# EAGLE library part EP3C16F256 (library altera)
EP3C16U256 edit this description Auto generated by make-symbol-device-package-bsdl.ulp Rev. 44 Source: EP3C16U256.txt Connect-List generated from EP3C16U256.DEV Variant U256 with split-device-symbol.ulp
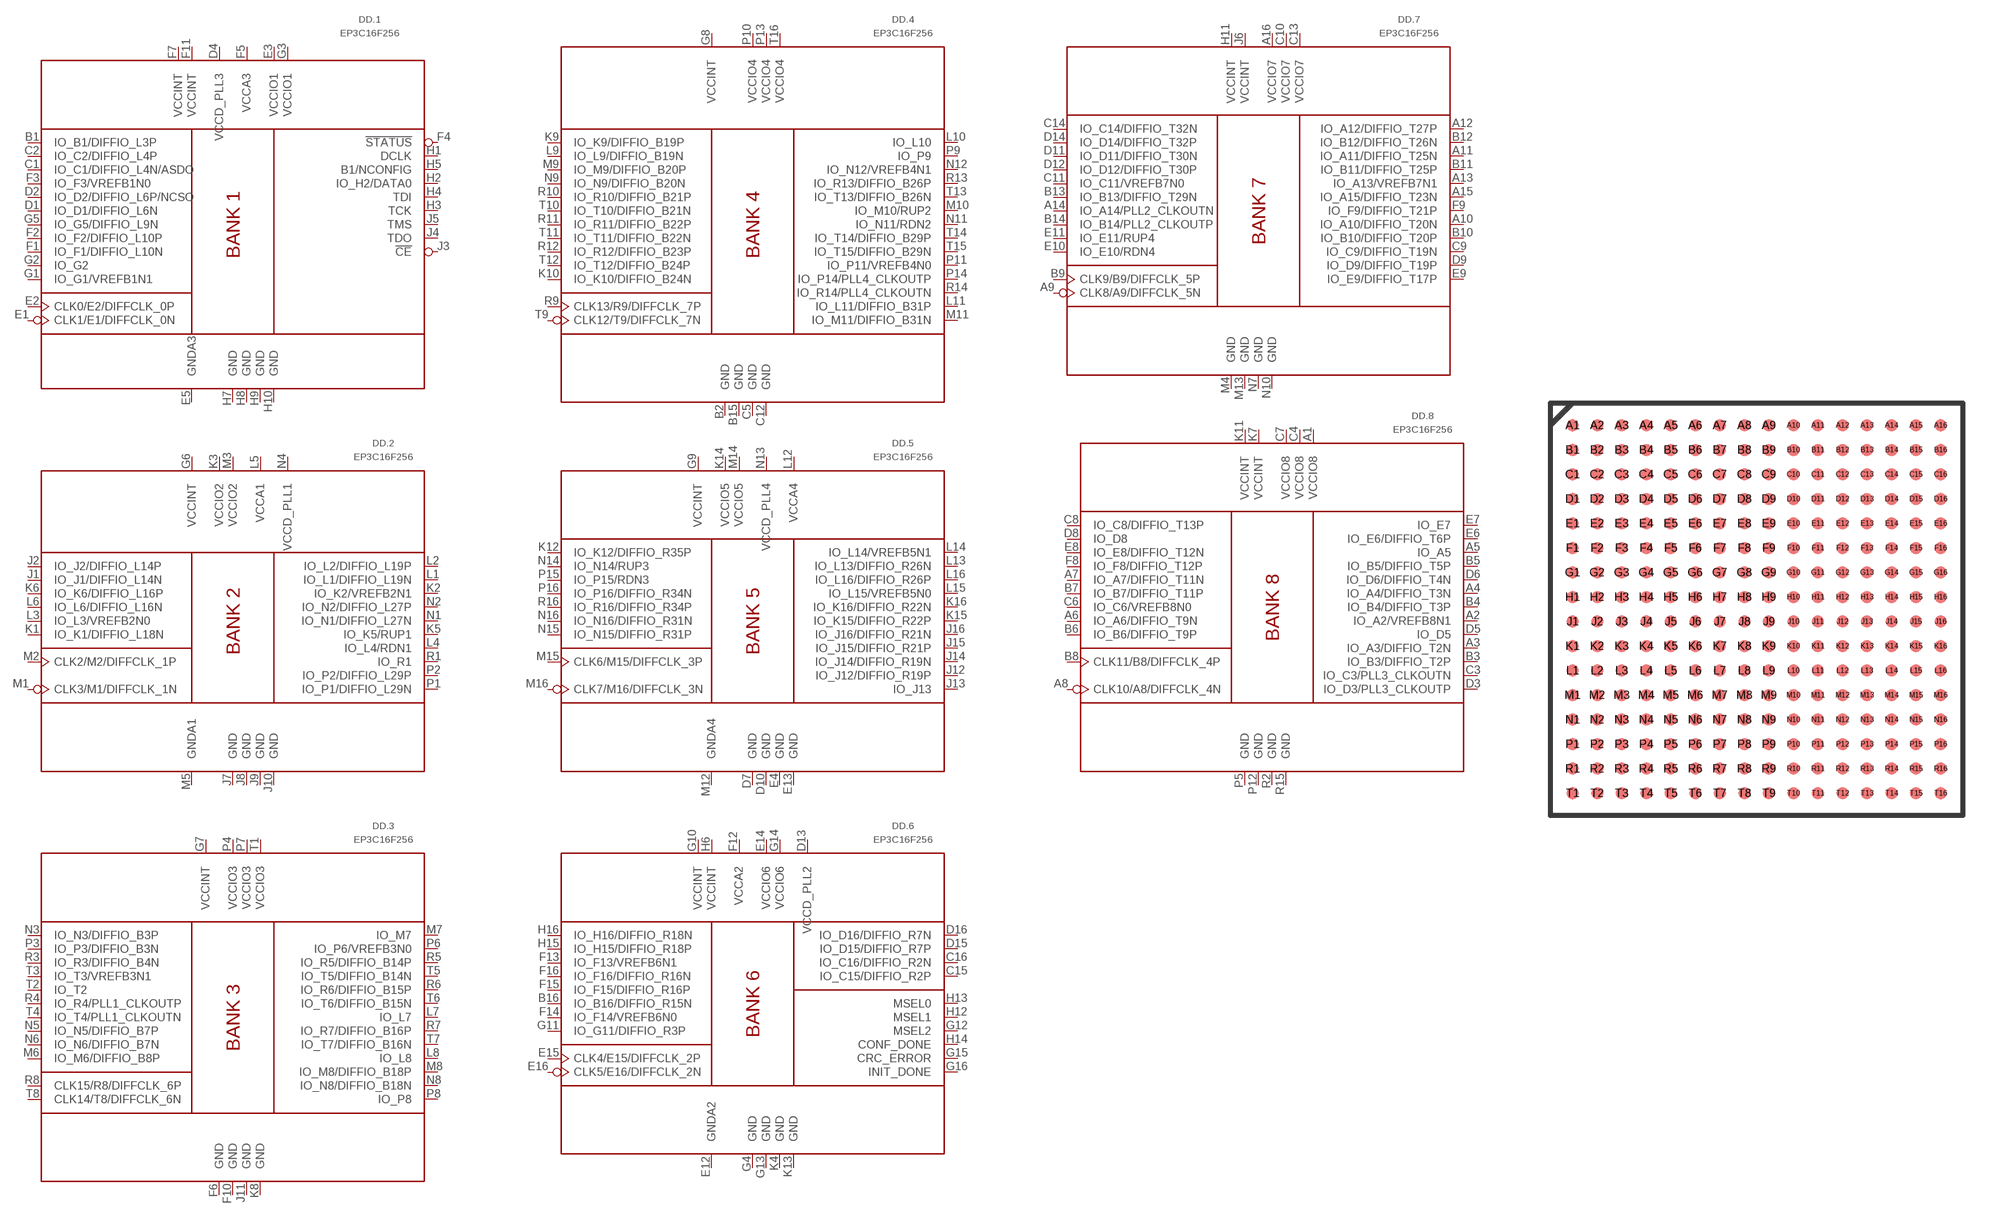
[diagram p5: symbol with the pads of FBGA256; footprint FBGA256]

Designator prefix DD; gates .1=EP3C16F256_BANK1 .2=EP3C16F256_BANK2 .3=EP3C16F256_BANK3 .4=EP3C16F256_BANK4 .5=EP3C16F256_BANK5 .6=EP3C16F256_BANK6 .7=EP3C16F256_BANK7 .8=EP3C16F256_BANK8

## EP3C16F256I7  [FBGA256]
A1  .8:VCCIO8  pwr
A2  .8:IO_A2/VREFB8N1
A3  .8:IO_A3/DIFFIO_T2N
A4  .8:IO_A4/DIFFIO_T3N
A5  .8:IO_A5
A6  .8:IO_A6/DIFFIO_T9N
A7  .8:IO_A7/DIFFIO_T11N
A8  .8:CLK10/A8/DIFFCLK_4N  in
A9  .7:CLK8/A9/DIFFCLK_5N  in
A10  .7:IO_A10/DIFFIO_T20N
A11  .7:IO_A11/DIFFIO_T25N
A12  .7:IO_A12/DIFFIO_T27P
A13  .7:IO_A13/VREFB7N1
A14  .7:IO_A14/PLL2_CLKOUTN
A15  .7:IO_A15/DIFFIO_T23N
A16  .7:VCCIO7  pwr
B1  .1:IO_B1/DIFFIO_L3P
B2  .4:GND  pwr
B3  .8:IO_B3/DIFFIO_T2P
B4  .8:IO_B4/DIFFIO_T3P
B5  .8:IO_B5/DIFFIO_T5P
B6  .8:IO_B6/DIFFIO_T9P
B7  .8:IO_B7/DIFFIO_T11P
B8  .8:CLK11/B8/DIFFCLK_4P  in
B9  .7:CLK9/B9/DIFFCLK_5P  in
B10  .7:IO_B10/DIFFIO_T20P
B11  .7:IO_B11/DIFFIO_T25P
B12  .7:IO_B12/DIFFIO_T26N
B13  .7:IO_B13/DIFFIO_T29N
B14  .7:IO_B14/PLL2_CLKOUTP
B15  .4:GND  pwr
B16  .6:IO_B16/DIFFIO_R15N
C1  .1:IO_C1/DIFFIO_L4N/ASDO
C2  .1:IO_C2/DIFFIO_L4P
C3  .8:IO_C3/PLL3_CLKOUTN
C4  .8:VCCIO8  pwr
C5  .4:GND  pwr
C6  .8:IO_C6/VREFB8N0
C7  .8:VCCIO8  pwr
C8  .8:IO_C8/DIFFIO_T13P
C9  .7:IO_C9/DIFFIO_T19N
C10  .7:VCCIO7  pwr
C11  .7:IO_C11/VREFB7N0
C12  .4:GND  pwr
C13  .7:VCCIO7  pwr
C14  .7:IO_C14/DIFFIO_T32N
C15  .6:IO_C15/DIFFIO_R2P
C16  .6:IO_C16/DIFFIO_R2N
D1  .1:IO_D1/DIFFIO_L6N
D2  .1:IO_D2/DIFFIO_L6P/NCSO
D3  .8:IO_D3/PLL3_CLKOUTP
D4  .1:VCCD_PLL3  pwr
D5  .8:IO_D5
D6  .8:IO_D6/DIFFIO_T4N
D7  .5:GND  pwr
D8  .8:IO_D8
D9  .7:IO_D9/DIFFIO_T19P
D10  .5:GND  pwr
D11  .7:IO_D11/DIFFIO_T30N
D12  .7:IO_D12/DIFFIO_T30P
D13  .6:VCCD_PLL2  pwr
D14  .7:IO_D14/DIFFIO_T32P
D15  .6:IO_D15/DIFFIO_R7P
D16  .6:IO_D16/DIFFIO_R7N
E1  .1:CLK1/E1/DIFFCLK_0N  in
E2  .1:CLK0/E2/DIFFCLK_0P  in
E3  .1:VCCIO1  pwr
E4  .5:GND  pwr
E5  .1:GNDA3  pwr
E6  .8:IO_E6/DIFFIO_T6P
E7  .8:IO_E7
E8  .8:IO_E8/DIFFIO_T12N
E9  .7:IO_E9/DIFFIO_T17P
E10  .7:IO_E10/RDN4
E11  .7:IO_E11/RUP4
E12  .6:GNDA2  pwr
E13  .5:GND  pwr
E14  .6:VCCIO6  pwr
E15  .6:CLK4/E15/DIFFCLK_2P  in
E16  .6:CLK5/E16/DIFFCLK_2N  in
F1  .1:IO_F1/DIFFIO_L10N
F2  .1:IO_F2/DIFFIO_L10P
F3  .1:IO_F3/VREFB1N0
F4  .1:!STATUS  out
F5  .1:VCCA3  pwr
F6  .3:GND  pwr
F7  .1:VCCINT  pwr
F8  .8:IO_F8/DIFFIO_T12P
F9  .7:IO_F9/DIFFIO_T21P
F10  .3:GND  pwr
F11  .1:VCCINT  pwr
F12  .6:VCCA2  pwr
F13  .6:IO_F13/VREFB6N1
F14  .6:IO_F14/VREFB6N0
F15  .6:IO_F15/DIFFIO_R16P
F16  .6:IO_F16/DIFFIO_R16N
G1  .1:IO_G1/VREFB1N1
G2  .1:IO_G2
G3  .1:VCCIO1  pwr
G4  .6:GND  pwr
G5  .1:IO_G5/DIFFIO_L9N
G6  .2:VCCINT  pwr
G7  .3:VCCINT  pwr
G8  .4:VCCINT  pwr
G9  .5:VCCINT  pwr
G10  .6:VCCINT  pwr
G11  .6:IO_G11/DIFFIO_R3P
G12  .6:MSEL2  in
G13  .6:GND  pwr
G14  .6:VCCIO6  pwr
G15  .6:CRC_ERROR
G16  .6:INIT_DONE
H1  .1:DCLK  in
H2  .1:IO_H2/DATA0
H3  .1:TCK  in
H4  .1:TDI  in
H5  .1:B1/NCONFIG  in
H6  .6:VCCINT  pwr
H7  .1:GND  pwr
H8  .1:GND  pwr
H9  .1:GND  pwr
H10  .1:GND  pwr
H11  .7:VCCINT  pwr
H12  .6:MSEL1  in
H13  .6:MSEL0  in
H14  .6:CONF_DONE  out
H15  .6:IO_H15/DIFFIO_R18P
H16  .6:IO_H16/DIFFIO_R18N
J1  .2:IO_J1/DIFFIO_L14N
J2  .2:IO_J2/DIFFIO_L14P
J3  .1:!CE  in
J4  .1:TDO  out
J5  .1:TMS
J6  .7:VCCINT  pwr
J7  .2:GND  pwr
J8  .2:GND  pwr
J9  .2:GND  pwr
J10  .2:GND  pwr
J11  .3:GND  pwr
J12  .5:IO_J12/DIFFIO_R19P
J13  .5:IO_J13
J14  .5:IO_J14/DIFFIO_R19N
J15  .5:IO_J15/DIFFIO_R21P
J16  .5:IO_J16/DIFFIO_R21N
K1  .2:IO_K1/DIFFIO_L18N
K2  .2:IO_K2/VREFB2N1
K3  .2:VCCIO2  pwr
K4  .6:GND  pwr
K5  .2:IO_K5/RUP1
K6  .2:IO_K6/DIFFIO_L16P
K7  .8:VCCINT  pwr
K8  .3:GND  pwr
K9  .4:IO_K9/DIFFIO_B19P
K10  .4:IO_K10/DIFFIO_B24N
K11  .8:VCCINT  pwr
K12  .5:IO_K12/DIFFIO_R35P
K13  .6:GND  pwr
K14  .5:VCCIO5  pwr
K15  .5:IO_K15/DIFFIO_R22P
K16  .5:IO_K16/DIFFIO_R22N
L1  .2:IO_L1/DIFFIO_L19N
L2  .2:IO_L2/DIFFIO_L19P
L3  .2:IO_L3/VREFB2N0
L4  .2:IO_L4/RDN1
L5  .2:VCCA1  pwr
L6  .2:IO_L6/DIFFIO_L16N
L7  .3:IO_L7
L8  .3:IO_L8
L9  .4:IO_L9/DIFFIO_B19N
L10  .4:IO_L10
L11  .4:IO_L11/DIFFIO_B31P
L12  .5:VCCA4  pwr
L13  .5:IO_L13/DIFFIO_R26N
L14  .5:IO_L14/VREFB5N1
L15  .5:IO_L15/VREFB5N0
L16  .5:IO_L16/DIFFIO_R26P
M1  .2:CLK3/M1/DIFFCLK_1N  in
M2  .2:CLK2/M2/DIFFCLK_1P  in
M3  .2:VCCIO2  pwr
M4  .7:GND  pwr
M5  .2:GNDA1  pwr
M6  .3:IO_M6/DIFFIO_B8P
M7  .3:IO_M7
M8  .3:IO_M8/DIFFIO_B18P
M9  .4:IO_M9/DIFFIO_B20P
M10  .4:IO_M10/RUP2
M11  .4:IO_M11/DIFFIO_B31N
M12  .5:GNDA4  pwr
M13  .7:GND  pwr
M14  .5:VCCIO5  pwr
M15  .5:CLK6/M15/DIFFCLK_3P  in
M16  .5:CLK7/M16/DIFFCLK_3N  in
N1  .2:IO_N1/DIFFIO_L27N
N2  .2:IO_N2/DIFFIO_L27P
N3  .3:IO_N3/DIFFIO_B3P
N4  .2:VCCD_PLL1  pwr
N5  .3:IO_N5/DIFFIO_B7P
N6  .3:IO_N6/DIFFIO_B7N
N7  .7:GND  pwr
N8  .3:IO_N8/DIFFIO_B18N
N9  .4:IO_N9/DIFFIO_B20N
N10  .7:GND  pwr
N11  .4:IO_N11/RDN2
N12  .4:IO_N12/VREFB4N1
N13  .5:VCCD_PLL4  pwr
N14  .5:IO_N14/RUP3
N15  .5:IO_N15/DIFFIO_R31P
N16  .5:IO_N16/DIFFIO_R31N
P1  .2:IO_P1/DIFFIO_L29N
P2  .2:IO_P2/DIFFIO_L29P
P3  .3:IO_P3/DIFFIO_B3N
P4  .3:VCCIO3  pwr
P5  .8:GND  pwr
P6  .3:IO_P6/VREFB3N0
P7  .3:VCCIO3  pwr
P8  .3:IO_P8
P9  .4:IO_P9
P10  .4:VCCIO4  pwr
P11  .4:IO_P11/VREFB4N0
P12  .8:GND  pwr
P13  .4:VCCIO4  pwr
P14  .4:IO_P14/PLL4_CLKOUTP
P15  .5:IO_P15/RDN3
P16  .5:IO_P16/DIFFIO_R34N
R1  .2:IO_R1
R2  .8:GND  pwr
R3  .3:IO_R3/DIFFIO_B4N
R4  .3:IO_R4/PLL1_CLKOUTP
R5  .3:IO_R5/DIFFIO_B14P
R6  .3:IO_R6/DIFFIO_B15P
R7  .3:IO_R7/DIFFIO_B16P
R8  .3:CLK15/R8/DIFFCLK_6P  in
R9  .4:CLK13/R9/DIFFCLK_7P  in
R10  .4:IO_R10/DIFFIO_B21P
R11  .4:IO_R11/DIFFIO_B22P
R12  .4:IO_R12/DIFFIO_B23P
R13  .4:IO_R13/DIFFIO_B26P
R14  .4:IO_R14/PLL4_CLKOUTN
R15  .8:GND  pwr
R16  .5:IO_R16/DIFFIO_R34P
T1  .3:VCCIO3  pwr
T2  .3:IO_T2
T3  .3:IO_T3/VREFB3N1
T4  .3:IO_T4/PLL1_CLKOUTN
T5  .3:IO_T5/DIFFIO_B14N
T6  .3:IO_T6/DIFFIO_B15N
T7  .3:IO_T7/DIFFIO_B16N
T8  .3:CLK14/T8/DIFFCLK_6N  in
T9  .4:CLK12/T9/DIFFCLK_7N  in
T10  .4:IO_T10/DIFFIO_B21N
T11  .4:IO_T11/DIFFIO_B22N
T12  .4:IO_T12/DIFFIO_B24P
T13  .4:IO_T13/DIFFIO_B26N
T14  .4:IO_T14/DIFFIO_B29P
T15  .4:IO_T15/DIFFIO_B29N
T16  .4:VCCIO4  pwr

## Footprint FBGA256 (pad centres in mm)
EP3C25F256.BSD edit this description Auto generated by make-symbol-device-package-bsdl.ulp Rev. 44 Source: EP3C25F256.BSD.txt
smd 0.5 x 0.5: A1 -7.5,7.5; A2 -6.5,7.5; A3 -5.5,7.5; A4 -4.5,7.5; A5 -3.5,7.5; A6 -2.5,7.5; A7 -1.5,7.5; A8 -0.5,7.5; A9 0.5,7.5; A10 1.5,7.5; A11 2.5,7.5; A12 3.5,7.5; A13 4.5,7.5; A14 5.5,7.5; A15 6.5,7.5; A16 7.5,7.5; B1 -7.5,6.5; B2 -6.5,6.5; B3 -5.5,6.5; B4 -4.5,6.5; B5 -3.5,6.5; B6 -2.5,6.5; B7 -1.5,6.5; B8 -0.5,6.5; B9 0.5,6.5; B10 1.5,6.5; B11 2.5,6.5; B12 3.5,6.5; B13 4.5,6.5; B14 5.5,6.5; B15 6.5,6.5; B16 7.5,6.5; C1 -7.5,5.5; C2 -6.5,5.5; C3 -5.5,5.5; C4 -4.5,5.5; C5 -3.5,5.5; C6 -2.5,5.5; C7 -1.5,5.5; C8 -0.5,5.5; C9 0.5,5.5; C10 1.5,5.5; C11 2.5,5.5; C12 3.5,5.5; C13 4.5,5.5; C14 5.5,5.5; C15 6.5,5.5; C16 7.5,5.5; D1 -7.5,4.5; D2 -6.5,4.5; D3 -5.5,4.5; D4 -4.5,4.5; D5 -3.5,4.5; D6 -2.5,4.5; D7 -1.5,4.5; D8 -0.5,4.5; D9 0.5,4.5; D10 1.5,4.5; D11 2.5,4.5; D12 3.5,4.5; D13 4.5,4.5; D14 5.5,4.5; D15 6.5,4.5; D16 7.5,4.5; E1 -7.5,3.5; E2 -6.5,3.5; E3 -5.5,3.5; E4 -4.5,3.5; E5 -3.5,3.5; E6 -2.5,3.5; E7 -1.5,3.5; E8 -0.5,3.5; E9 0.5,3.5; E10 1.5,3.5; E11 2.5,3.5; E12 3.5,3.5; E13 4.5,3.5; E14 5.5,3.5; E15 6.5,3.5; E16 7.5,3.5; F1 -7.5,2.5; F2 -6.5,2.5; F3 -5.5,2.5; F4 -4.5,2.5; F5 -3.5,2.5; F6 -2.5,2.5; F7 -1.5,2.5; F8 -0.5,2.5; F9 0.5,2.5; F10 1.5,2.5; F11 2.5,2.5; F12 3.5,2.5; F13 4.5,2.5; F14 5.5,2.5; F15 6.5,2.5; F16 7.5,2.5; G1 -7.5,1.5; G2 -6.5,1.5; G3 -5.5,1.5; G4 -4.5,1.5; G5 -3.5,1.5; G6 -2.5,1.5; G7 -1.5,1.5; G8 -0.5,1.5; G9 0.5,1.5; G10 1.5,1.5; G11 2.5,1.5; G12 3.5,1.5; G13 4.5,1.5; G14 5.5,1.5; G15 6.5,1.5; G16 7.5,1.5; H1 -7.5,0.5; H2 -6.5,0.5; H3 -5.5,0.5; H4 -4.5,0.5; H5 -3.5,0.5; H6 -2.5,0.5; H7 -1.5,0.5; H8 -0.5,0.5; H9 0.5,0.5; H10 1.5,0.5; H11 2.5,0.5; H12 3.5,0.5; H13 4.5,0.5; H14 5.5,0.5; H15 6.5,0.5; H16 7.5,0.5; J1 -7.5,-0.5; J2 -6.5,-0.5; J3 -5.5,-0.5; J4 -4.5,-0.5; J5 -3.5,-0.5; J6 -2.5,-0.5; J7 -1.5,-0.5; J8 -0.5,-0.5; J9 0.5,-0.5; J10 1.5,-0.5; J11 2.5,-0.5; J12 3.5,-0.5; J13 4.5,-0.5; J14 5.5,-0.5; J15 6.5,-0.5; J16 7.5,-0.5; K1 -7.5,-1.5; K2 -6.5,-1.5; K3 -5.5,-1.5; K4 -4.5,-1.5; K5 -3.5,-1.5; K6 -2.5,-1.5; K7 -1.5,-1.5; K8 -0.5,-1.5; K9 0.5,-1.5; K10 1.5,-1.5; K11 2.5,-1.5; K12 3.5,-1.5; K13 4.5,-1.5; K14 5.5,-1.5; K15 6.5,-1.5; K16 7.5,-1.5; L1 -7.5,-2.5; L2 -6.5,-2.5; L3 -5.5,-2.5; L4 -4.5,-2.5; L5 -3.5,-2.5; L6 -2.5,-2.5; L7 -1.5,-2.5; L8 -0.5,-2.5; L9 0.5,-2.5; L10 1.5,-2.5; L11 2.5,-2.5; L12 3.5,-2.5; L13 4.5,-2.5; L14 5.5,-2.5; L15 6.5,-2.5; L16 7.5,-2.5; M1 -7.5,-3.5; M2 -6.5,-3.5; M3 -5.5,-3.5; M4 -4.5,-3.5; M5 -3.5,-3.5; M6 -2.5,-3.5; M7 -1.5,-3.5; M8 -0.5,-3.5; M9 0.5,-3.5; M10 1.5,-3.5; M11 2.5,-3.5; M12 3.5,-3.5; M13 4.5,-3.5; M14 5.5,-3.5; M15 6.5,-3.5; M16 7.5,-3.5; N1 -7.5,-4.5; N2 -6.5,-4.5; N3 -5.5,-4.5; N4 -4.5,-4.5; N5 -3.5,-4.5; N6 -2.5,-4.5; N7 -1.5,-4.5; N8 -0.5,-4.5; N9 0.5,-4.5; N10 1.5,-4.5; N11 2.5,-4.5; N12 3.5,-4.5; N13 4.5,-4.5; N14 5.5,-4.5; N15 6.5,-4.5; N16 7.5,-4.5; P1 -7.5,-5.5; P2 -6.5,-5.5; P3 -5.5,-5.5; P4 -4.5,-5.5; P5 -3.5,-5.5; P6 -2.5,-5.5; P7 -1.5,-5.5; P8 -0.5,-5.5; P9 0.5,-5.5; P10 1.5,-5.5; P11 2.5,-5.5; P12 3.5,-5.5; P13 4.5,-5.5; P14 5.5,-5.5; P15 6.5,-5.5; P16 7.5,-5.5; R1 -7.5,-6.5; R2 -6.5,-6.5; R3 -5.5,-6.5; R4 -4.5,-6.5; R5 -3.5,-6.5; R6 -2.5,-6.5; R7 -1.5,-6.5; R8 -0.5,-6.5; R9 0.5,-6.5; R10 1.5,-6.5; R11 2.5,-6.5; R12 3.5,-6.5; R13 4.5,-6.5; R14 5.5,-6.5; R15 6.5,-6.5; R16 7.5,-6.5; T1 -7.5,-7.5; T2 -6.5,-7.5; T3 -5.5,-7.5; T4 -4.5,-7.5; T5 -3.5,-7.5; T6 -2.5,-7.5; T7 -1.5,-7.5; T8 -0.5,-7.5; T9 0.5,-7.5; T10 1.5,-7.5; T11 2.5,-7.5; T12 3.5,-7.5; T13 4.5,-7.5; T14 5.5,-7.5; T15 6.5,-7.5; T16 7.5,-7.5